# EAGLE library part AL2-24MR-A (library e-sps)
SPS AL2 24MR A AC-Eingang, Relais-Ausgang MITSUBISHI Alpha_Installationsanweisung.pdf
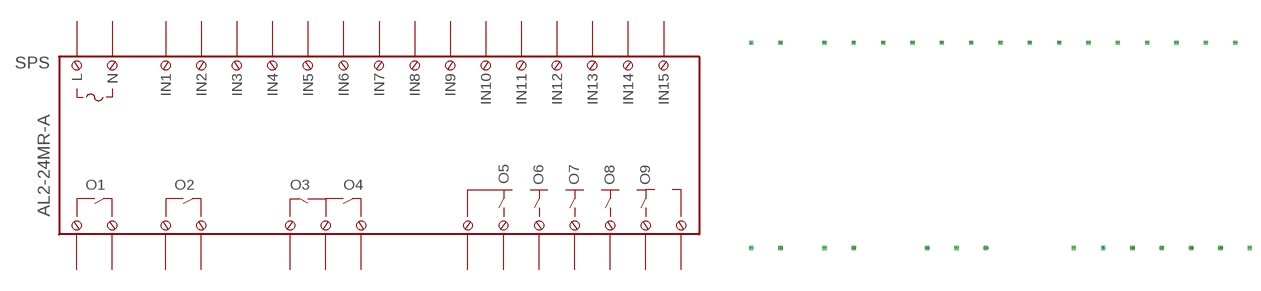
[diagram p17: symbol with the pads of AL2-24MR-A; footprint AL2-24MR-A]

Designator prefix SPS

## AL2-24MR-A  [AL2-24MR-A]
5  5  pas
IN1  IN1  pas
IN2  IN2  pas
IN3  IN3  pas
IN4  IN4  pas
IN5  IN5  pas
IN6  IN6  pas
IN7  IN7  pas
IN8  IN8  pas
IN9  IN9  pas
IN10  IN10  pas
IN11  IN11  pas
IN12  IN12  pas
IN13  IN13  pas
IN14  IN14  pas
IN15  IN15  pas
L  L  pas
N  N  pas
O1  O1  pas
O1.1  O1.1  pas
O2  O2  pas
O2.1  O2.1  pas
O3  O3  pas
O3.4  O3.4  pas
O4  O4  pas
O5.1  O5.1  pas
O6  O6  pas
O7  O7  pas
O8  O8  pas
O9  O9  pas
O9.1  O9.1  pas

## Footprint AL2-24MR-A (pad centres in mm)
AL2 24MR A
drill 0.2 pad 0.6 square: 5 15.24,-17.78; IN1 -33.02,17.78; IN2 -27.94,17.78; IN3 -22.86,17.78; IN4 -17.78,17.78; IN5 -12.7,17.78; IN6 -7.62,17.78; IN7 -2.54,17.78; IN8 2.54,17.78; IN9 7.62,17.78; IN10 12.7,17.78; IN11 17.78,17.78; IN12 22.86,17.78; IN13 27.94,17.78; IN14 33.02,17.78; IN15 38.1,17.78; L -45.72,17.78; N -40.64,17.78; O1 -40.64,-17.78; O1.1 -45.72,-17.78; O2 -27.94,-17.78; O2.1 -33.02,-17.78; O3 -15.24,-17.78; O3.4 -10.16,-17.78; O4 -5.08,-17.78; O5.1 10.16,-17.78; O6 20.32,-17.78; O7 25.4,-17.78; O8 30.48,-17.78; O9 35.56,-17.78; O9.1 40.64,-17.78